# Altium footprint library CA_8MM-TRIMMER.PcbLib: 1 footprints
Each footprint in its own frame and in the unit in brackets; x right, y up, seen from the top. Pads: shape width x height; smd on the part's side, far side on the other; paste and mask are expansions set on the pad; w line width, h text height; cw(c..) or ccw(c..) is an arc to the next point about the centre after c.
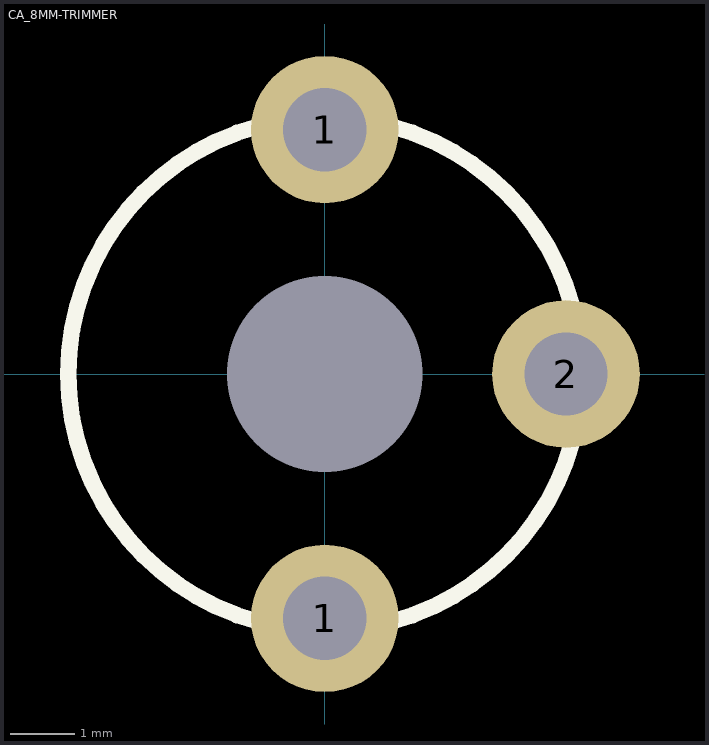
[diagram p0: the footprint, top view; thin cyan lines are the x and y axes]

## CA_8MM-TRIMMER [mm]
pads (4):
  round 0 hole 3.048 unplated: 0(0,0)
  round 2.3 hole 1.3: 1(0,-3.81) 1(0,3.81) 2(3.759,0)
Top Overlay:
  circle w0.254: c0,0 r4
3D body: height 0, standoff 0, extent -4.012,-4.012 4.012,4.012